# Altium footprint library 光耦.PcbLib: 3 footprints
Each footprint in its own frame and in the unit in brackets; x right, y up, seen from the top. Pads: shape width x height; smd on the part's side, far side on the other; paste and mask are expansions set on the pad; w line width, h text height; cw(c..) or ccw(c..) is an arc to the next point about the centre after c.
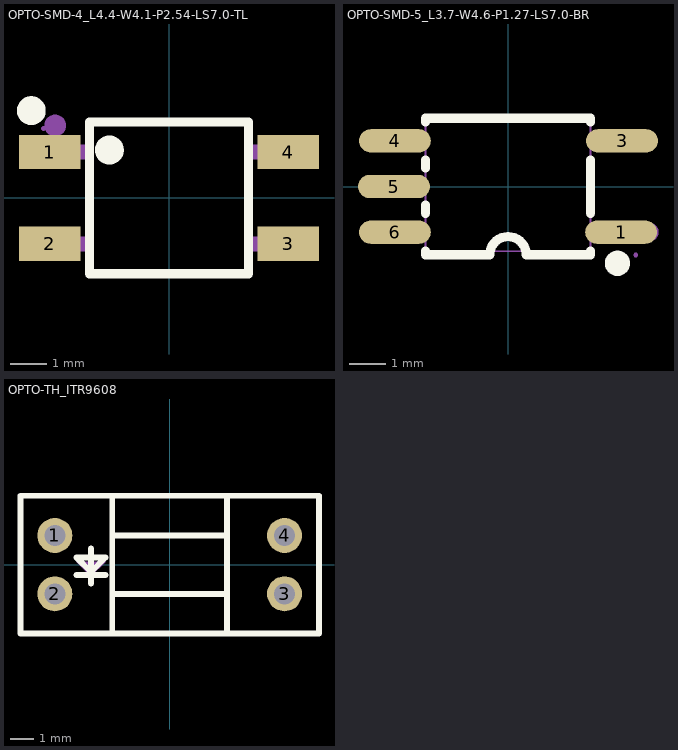
[diagram p0: the footprints below, top view; thin cyan lines are the x and y axes]

## OPTO-SMD-4_L4.4-W4.1-P2.54-LS7.0-TL [mm]
pads (4):
  rect 1.7x0.95 smd: 1(-3.3,1.27) 2(-3.3,-1.27) 3(3.3,-1.27) 4(3.3,1.27)
Top Overlay:
  lines w0.254: -2.2,-2.1 -2.2,2.1 2.2,2.1 2.2,-2.1 -2.2,-2.1
  lines w0.4: -3.811,2.613 ccw(c-3.81,2.413) -3.809,2.613 ; -1.651,1.524 ccw(c-1.65,1.324) -1.648,1.524
Mechanical 6:
  circle w0.3: c-3.15,2.002 r0.15
Mechanical 15:
  region: -3.41,1.92 -3.41,1.945 -3.445,1.98 -3.495,1.98 -3.53,1.945 -3.53,1.92 -3.53,1.895 -3.495,1.86 -3.445,1.86 -3.41,1.895
  region: -3.5,1.47 -3,1.47 -3,1.07 -3.5,1.07
  region: -3.01,1.47 -2.19,1.47 -2.19,1.07 -3.01,1.07
  region: -3.5,-1.07 -3,-1.07 -3,-1.47 -3.5,-1.47
  region: -3.01,-1.07 -2.19,-1.07 -2.19,-1.47 -3.01,-1.47
  region: 3.5,1.47 3,1.47 3,1.07 3.5,1.07
  region: 3.01,1.47 2.19,1.47 2.19,1.07 3.01,1.07
  region: 3.5,-1.07 3,-1.07 3,-1.47 3.5,-1.47
  region: 3.01,-1.07 2.19,-1.07 2.19,-1.47 3.01,-1.47
  lines w0.051: -2.2,-2.05 -2.2,2.05 2.2,2.05 2.2,-2.05 -2.2,-2.05
3D body "U2.step": height 2.08, standoff 0, extent -3.5,-2.05 3.5,2.05

## OPTO-SMD-5_L3.7-W4.6-P1.27-LS7.0-BR [mm]
pads (5):
  oval 2x0.65 smd: 1(3.15,-1.27) 3(3.175,1.27) 4(-3.15,1.27) 5(-3.175,0) 6(-3.15,-1.27)
Top Overlay:
  lines w0.254: -2.3,-0.742 -2.3,-0.519 ; -2.3,0.519 -2.3,0.742 ; -2.3,1.798 -2.3,1.9 2.3,1.9 2.3,1.798 ; 2.3,-1.798 2.3,-1.9 0.508,-1.9 ccw(c0,-1.9) -0.508,-1.9 -2.3,-1.9 ; 2.3,-0.742 2.3,0.742 ; -2.3,-1.9 -2.3,-1.798 -2.3,-1.9
  lines w0.4: 3.045,-2.286 cw(c3.047,-2.136) 3.048,-2.286
Mechanical 6:
  circle w0.254: c3.937,-1.27 r0.127
Mechanical 15:
  region: 2.265,1.07 2.265,1.47 3.01,1.47 3.01,1.07
  region: 3,1.07 3,1.47 3.5,1.47 3.5,1.07
  region: 2.265,-1.47 2.265,-1.07 3.01,-1.07 3.01,-1.47
  region: 3,-1.47 3,-1.07 3.5,-1.07 3.5,-1.47
  region: -3.01,-1.47 -3.01,-1.07 -2.265,-1.07 -2.265,-1.47
  region: -3.5,-1.47 -3.5,-1.07 -3,-1.07 -3,-1.47
  region: -3.01,1.07 -3.01,1.47 -2.265,1.47 -2.265,1.07
  region: -3.5,1.07 -3.5,1.47 -3,1.47 -3,1.07
  region: -3.525,-0.2 -3.525,0.2 -3.025,0.2 -3.025,-0.2
  region: -3.035,-0.2 -3.035,0.2 -2.29,0.2 -2.29,-0.2
  region: 3.616,-1.905 3.615,-1.881 3.58,-1.847 3.532,-1.847 3.497,-1.881 3.496,-1.905 3.497,-1.929 3.532,-1.963 3.58,-1.963 3.615,-1.929
  lines w0.051: -2.3,-1.8 -2.3,1.9 2.3,1.9 2.3,-1.8 -2.3,-1.8
3D body "U1.step": height 2.2, standoff 0, extent -3.5,-1.85 3.5,1.85

## OPTO-TH_ITR9608 [mil]
pads (4):
  round 60 hole 36: 1(-196.85,50) 2(-196.85,-50) 3(196.85,-50) 4(196.85,50)
Top Overlay:
  lines w10: -160,-17.5 -115,-17.5 -110,-17.5 ; -135,-32.5 -135,27.5 ; -98.42,-118.11 -98.42,118.11 ; -98.42,-50 98.43,-50 ; -98.42,50 98.42,50 ; 98.42,-118.11 98.42,118.11 ; -255.91,-118.11 -255.91,118.11 255.91,118.11 255.91,-118.11 -255.91,-118.11 ; -160,12.5 -135,-12.5 -110,12.5 -155,12.5 -160,12.5
Mechanical 6:
  region: -160,5 -110,5 -135,-20
  region: -110,-15 -160,-15 -160,-20 -110,-20
  region: -137.5,15 -137.5,-35 -132.5,-35 -132.5,15
Mechanical 15:
  region: -258.27,118.11 -258.23,119.06 -256.86,120.38 -254.96,120.37 -253.59,119.06 -253.55,118.11 -253.59,117.16 -254.96,115.84 -256.86,115.84 -258.23,117.16 -258.27,118.11
  region: 187.01,59.84 206.69,59.84 206.69,40.16 187.01,40.16
  region: 187.01,-40.16 206.69,-40.16 206.69,-59.84 187.01,-59.84
  region: -206.69,-40.16 -187.01,-40.16 -187.01,-59.84 -206.69,-59.84
  region: -206.69,59.84 -187.01,59.84 -187.01,40.16 -206.69,40.16
  lines w2: -255.91,-118.11 -255.91,118.11 255.91,118.11 255.91,-118.11 -255.91,-118.11
3D body "KEY1.step": height 393.7, standoff -236.22, extent -255.91,-118.15 255.91,118.11